# Altium schematic symbol library CC6902SO-5A_2022-06-12.SCHLIB: 1 symbol
Pins are listed as number, name and electrical type; pins without a type are passive.

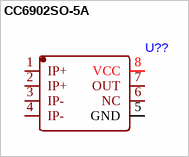
[diagram p0: symbol CC6902SO-5A]

## CC6902SO-5A
designator U??
footprint SOP-8_L4.9-W3.9-P1.27-LS6.0-BL
pins: 1 IP+, 2 IP+, 3 IP-, 4 IP-, 5 GND, 6 NC, 7 OUT, 8 VCC